# Altium schematic symbol library Passives.SchLib: 5 symbols
Pins are listed as number, name and electrical type; pins without a type are passive.

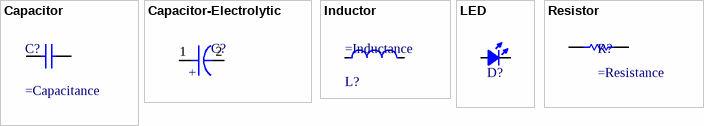
[diagram p0: symbols Capacitor to Resistor]

## Capacitor
designator C?
Capacitor
pins: 1, 2

## Capacitor-Electrolytic
designator C?  (value not drawn)
pins: 1 C, 2 A
text: +

## Inductor
designator L?
pins: 1, 2

## LED
designator D?  (value not drawn)
Part Number: Javan
pins: 1 A, 2 K

## Resistor
designator R?
pins: 1, 2